# Altium schematic symbol library Symbols.SchLib: 143 symbols (part 5 of 5)
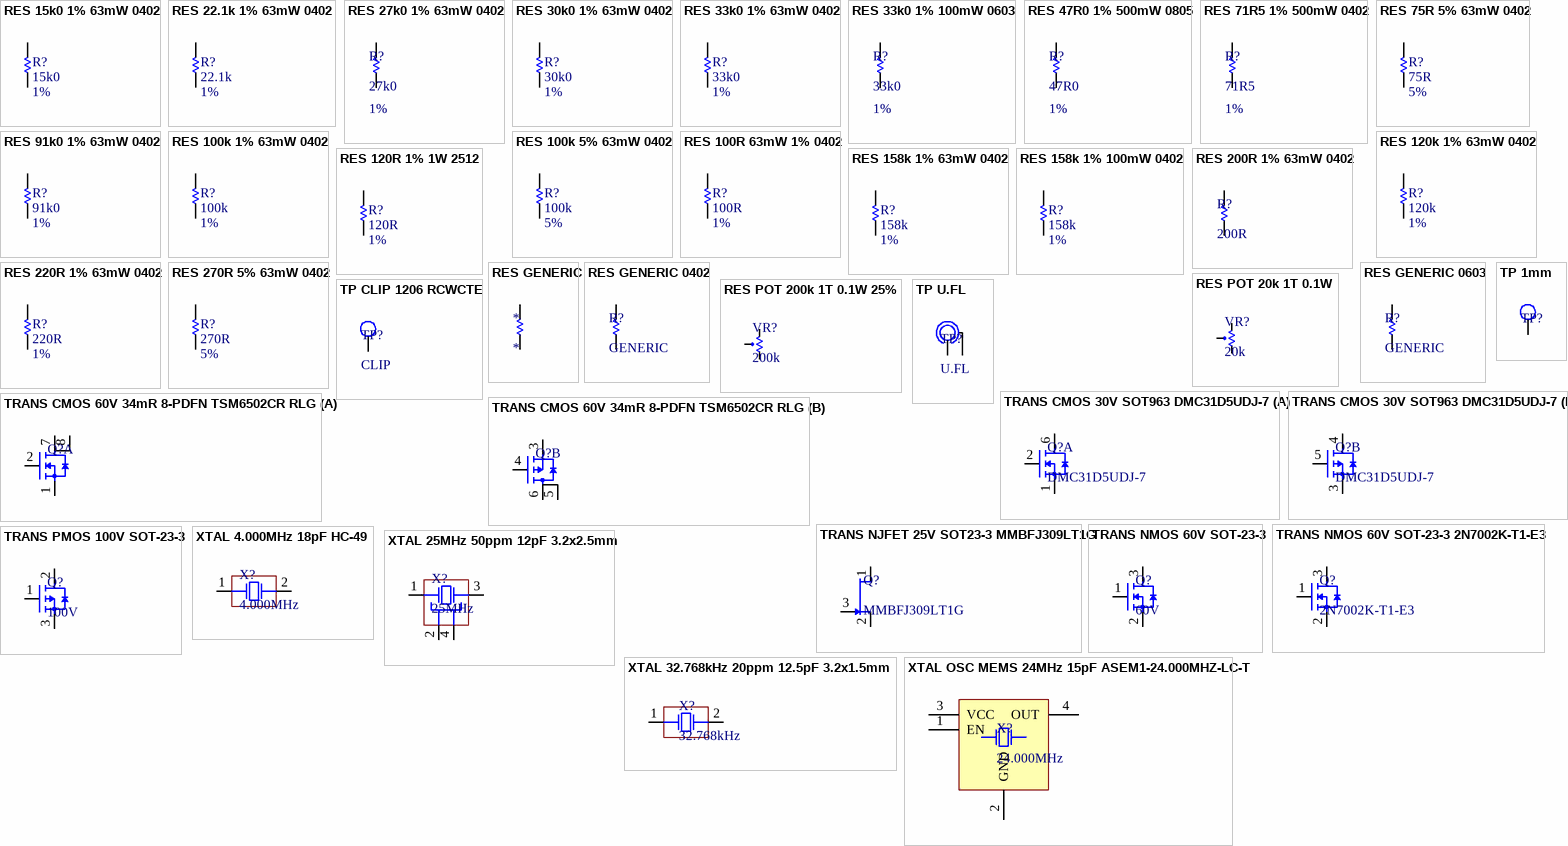
[diagram p7: symbols RES 15k0 1% 63mW 0402 to XTAL OSC MEMS 24MHz 15pF ASEM1-24.000MHZ-LC-T]

## RES POT 20k 1T 0.1W
designator VR?, comment 20k
Res Trimmer 20K Ohm 25% 1/10W 1(Elec)/1(Mech)Turn (3 X 3.8mm) Foot Print SMD Embossed T/R; Manufacturer: Bourns; Manufacturer Part Number: TC33X-2-203E; Resistance: 20kR; Power Rating: 100mW; Number of Turns: 1; Temperature Coefficient: 250ppm/°C; Supplier 1: Digi-Key; RoHS: Yes; Category: Variable Resistors and Potentiometers; Stock 1: 95244; Pricing 1: 1=0.26000, 10=0.25200, 25=0.22760, 50=0.21700, 100=0.21000, 250=0.19600, 500=0.17850, 1000=0.16100 (USD); Mount: Surface Mount; Min Operating Temperature: -40°C; Max Operating Temperature: 100°C; Tolerance: 25%; Packaging: Tape and Reel; Package Quantity: 2500; Resistor Type: Cermet; Termination: Foot Print; Max Power Dissipation: 100mW; Series: TC33; Resistance Tolerance: 25%; Length: 3mm; Width: 0.118inch; Height: 0.047inch; Depth: 3.8mm; Radiation Hardening: No; REACH SVHC: No SVHC; Military Standard: Not; RoHS Compliant: Yes; ComponentLink1URL: https://datasheet.ciiva.com/22671/1537288-22671216.pdf?src-supplier=Element14; ComponentLink1Description: https://datasheet.ciiva.com/22671/1537288-22671216.pdf?src-supplier=Element14; ComponentLink2URL: https://datasheet.ciiva.com/11833/0900766b802749b3-11833400.pdf?src-supplier=RSComponents; ComponentLink2Description: https://datasheet.ciiva.com/11833/0900766b802749b3-11833400.pdf?src-supplier=RSComponents; ComponentLink3URL: https://datasheet.ciiva.com/6227/tc33-6227117.pdf?src-supplier=Digi-Key; ComponentLink3Description: https://datasheet.ciiva.com/6227/tc33-6227117.pdf?src-supplier=Digi-Key; ComponentLink4URL: https://datasheet.ciiva.com/6227/tc33-6227118.pdf?src-supplier=Digi-Key; ComponentLink4Description: https://datasheet.ciiva.com/6227/tc33-6227118.pdf?src-supplier=Digi-Key; ComponentLink5URL: https://datasheet.ciiva.com/6227/tc33-6227119.pdf?src-supplier=Digi-Key; ComponentLink5Description: https://datasheet.ciiva.com/6227/tc33-6227119.pdf?src-supplier=Digi-Key; ComponentLink6URL: https://datasheet.ciiva.com/30078/tc33-30078556.pdf?src-supplier=Onlinecomponents.com; ComponentLink6Description: https://datasheet.ciiva.com/30078/tc33-30078556.pdf?src-supplier=Onlinecomponents.com; ComponentLink7URL: https://datasheet.ciiva.com/15156/getdatasheetpartid-128027-15156621.pdf?src-supplier=Verical; ComponentLink7Description: https://datasheet.ciiva.com/15156/getdatasheetpartid-128027-15156621.pdf?src-supplier=Verical; ComponentLink8URL: https://datasheet.ciiva.com/7953/1818686-7953350.pdf?src-supplier=Element14; ComponentLink8Description: https://datasheet.ciiva.com/7953/1818686-7953350.pdf?src-supplier=Element14; ComponentLink9URL: https://datasheet.ciiva.com/22718/1520225-22718588.pdf?src-supplier=Element14; ComponentLink9Description: https://datasheet.ciiva.com/22718/1520225-22718588.pdf?src-supplier=Element14; Supplier Part Number 1: TC33X-2-203ECT-ND
footprint RV TC33X-2
pins: 1, 2, 3

## RES POT 200k 1T 0.1W 25%
designator VR?, comment 200k
Res Trimmer 200K Ohm 25% 1/10W 1(Elec)/1(Mech)Turn (3 X 3.8mm) Foot Print SMD Embossed T/R; Manufacturer: Bourns; Manufacturer Part Number: TC33X-2-204E; Resistance: 200kR; Power Rating: 100mW; Temperature Coefficient: 250ppm/°C; Supplier 1: Digi-Key; RoHS: Yes; Category: Variable Resistors and Potentiometers; Stock 1: 4250; Pricing 1: 1=0.26000, 10=0.25500, 25=0.22960, 50=0.21920, 100=0.21210, 250=0.19796, 500=0.18028, 1000=0.16261 (USD); Mount: Surface Mount; Min Operating Temperature: -40°C; Max Operating Temperature: 120°C; Package Quantity: 1; Tolerance: 25%; Packaging: Tape and Reel; Resistor Type: Cermet,Carbon; Termination: SMD/SMT; Max Power Dissipation: 100mW; Series: Trimpot® TC33 - Open Frame; Length: 0.15inch; Width: 0.118inch; Height: 0.047inch; Radiation Hardening: No; RoHS Compliant: Yes; ComponentLink1URL: https://datasheet.ciiva.com/8700/tc33-8700183.pdf?src-supplier=Avnet; ComponentLink1Description: https://datasheet.ciiva.com/8700/tc33-8700183.pdf?src-supplier=Avnet; ComponentLink2URL: https://datasheet.ciiva.com/6227/tc33-6227132.pdf?src-supplier=Digi-Key; ComponentLink2Description: https://datasheet.ciiva.com/6227/tc33-6227132.pdf?src-supplier=Digi-Key; Supplier Part Number 1: TC33X-2-204ECT-ND
footprint RV TC33X-2
pins: 1, 2, 3

## TP 1mm
designator TP?, comment 1mm  (value not drawn)  (no BOM)
SMT testpoint
footprint TESTPOINT_SMT (testpoint smt)
pins: 1

## TP CLIP 1206 RCWCTE
designator TP?, comment CLIP
Current Sense Resistors - SMD CHIP CHECKER HT=2.0 1206; Manufacturer: KOA Speer; Manufacturer Part Number: RCWCTE; Resistance: 0R; Current Rating: 2A; Supplier 1: Digi-Key; RoHS: Yes; Category: Chip SMD Resistors; Stock 1: 282207; Pricing 1: 1=0.16000, 10=0.13700, 25=0.12120, 50=0.11320, 100=0.10500, 250=0.09292, 500=0.08888, 1000=0.07272 (USD); Mount: Surface Mount; Case/Package: 1206; Case Code (Imperial): 1206; Case Code (Metric): 3216; Min Operating Temperature: -55°C; Max Operating Temperature: 125°C; Packaging: Tape and Reel; Termination: SMD/SMT; Series: RC; Length: 3.2mm; Width: 1.6mm; Height: 2mm; Depth: 1.6mm; Military Standard: Not; RoHS Compliant: Yes; ComponentLink1URL: https://datasheet.ciiva.com/34302/1876186-34302940.pdf?src-supplier=Jameco; ComponentLink1Description: https://datasheet.ciiva.com/34302/1876186-34302940.pdf?src-supplier=Jameco; ComponentLink2URL: https://datasheet.ciiva.com/5556/rc-5556236.pdf?src-supplier=Mouser; ComponentLink2Description: https://datasheet.ciiva.com/5556/rc-5556236.pdf?src-supplier=Mouser; ComponentLink3URL: https://datasheet.ciiva.com/26821/getdatasheetpartid-110197-26821157.pdf?src-supplier=Verical; ComponentLink3Description: https://datasheet.ciiva.com/26821/getdatasheetpartid-110197-26821157.pdf?src-supplier=Verical; Supplier Part Number 1: 2019-RCWCTECT-ND
footprint TESTPOINT_CLIP_1206
pins: 1

## TP U.FL
designator TP?, comment U.FL
CONN U.FL RCPT STR 50 OHM SMD; Manufacturer: Hirose; Manufacturer Part Number: U.FL-R-SMT-1(80); Body Material: Bronze; Body Plating: Silver; Center Contact Plating: Gold; Dielectric Material: Polymer; Connector Type: Receptacle,Male Pin; Impedance: 50R; Max Frequency: 6GHz; Number of Ports: 1; Mating Cycles: 30; Supplier 1: Future Electronics; RoHS: Yes; Category: RF / Coaxial Connectors; Stock 1: 40000; Pricing 1: 10000=0.81500, 20000=0.80000, 30000=0.78500 (USD); Mount: Surface Mount; Case/Package: SMD/SMT; Contact Material: Brass; Housing Color: Beige; Min Operating Temperature: -40°C; Max Operating Temperature: 90°C; Package Quantity: 10000; Packaging: Tape and Reel; Fastening Type: SNAP-ON; Series: U.FL; Termination: Solder; Lead Free: Lead Free; RoHS Compliant: Yes; ComponentLink1URL: http://www.mouser.com/ds/2/185/U.FL_catalog-939761.pdf?src-supplier=Mouser; ComponentLink1Description: http://www.mouser.com/ds/2/185/U.FL_catalog-939761.pdf?src-supplier=Mouser; ComponentLink2URL: https://www.hirose.com/product/en/download_file/key_name/U.FL-R-SMT-1%2880%29/category/Specification%20Sheet/doc_file_id/37638/?file_category_id=9&item_id=03310472280&is_series=&src-supplier=Digi-Key; ComponentLink2Description: https://www.hirose.com/product/en/download_file/key_name/U.FL-R-SMT-1%2880%29/category/Specification%20Sheet/doc_file_id/37638/?file_category_id=9&item_id=03310472280&is_series=&src-supplier=Digi-Key
footprint U.FL (SOT23, 6-Leads, Body 2.90x2.80mm, Pitch 0.95mm, IPC Low Density)
pins: 0, 1

## TRANS CMOS 30V SOT963 DMC31D5UDJ-7
designator Q?, comment DMC31D5UDJ-7
Complementary Pair Enhancement Mode Mosfet, N+p, 30V Vds, 12±V Vgs; Manufacturer: Diodes; Continuous Drain Current (ID): 200mA; Rds On Max: 1.5R; Input Capacitance: 22.6pF; Max Power Dissipation: 350mW; Number of Channels: 2; Drain to Source Resistance: 5.1R; Fall Time: 8.7ns; Rise Time: 5.2ns; Turn-Off Delay Time: 18.8ns; Turn-On Delay Time: 3.5ns; FET Type: N and P-Channel; Capacitance: 2.22E-11F; Supplier 1: Digi-Key; Manufacturer Part Number: DMC31D5UDJ-7; RoHS: Yes; Category: MOSFETs; Stock 1: 103163; Pricing 1: 1=0.46000, 10=0.39000, 100=0.29110, 500=0.22868, 1000=0.17672, 2000=0.16112, 5000=0.15073 (USD); Mount: Surface Mount; Case/Package: SOT-963; Min Operating Temperature: -55°C; Max Operating Temperature: 150°C; Packaging: Tape and Reel; Drain to Source Voltage (Vdss): 30V; Gate to Source Voltage (Vgs): 12V; Package Quantity: 10000; RoHS Compliant: Yes; ComponentLink1URL: http://www.mouser.com/ds/2/115/DMC31D5UDJ-355884.pdf?src-supplier=Mouser; ComponentLink1Description: http://www.mouser.com/ds/2/115/DMC31D5UDJ-355884.pdf?src-supplier=Mouser; Supplier Part Number 1: DMC31D5UDJ-7DICT-ND
footprint SOT963 6pin 1x1mm DIODES (SOTFL, 6-Leads, Body 1.00x1.00mm, Pitch 0.35mm, IPC Medium Density)
part A pins: 1 S, 2 G, 6 D
part B pins: 3 S, 4 S, 5 G

## TRANS CMOS 60V 34mR 8-PDFN TSM6502CR RLG
designator Q?, comment TSM6502CR RLG  (value not drawn)
-60V, -18A, Complementary P-Channel Power MOSFET; 60V, 24A, Complementary N-Channel Power MOSFET; Manufacturer: Taiwan Semiconductor; FET Type: N and P-Channel; Continuous Drain Current (ID): 18A; Rds On Max: 34mR; Input Capacitance: 1.159nF; Max Power Dissipation: 40W; Supplier 1: Digi-Key; Manufacturer Part Number: TSM6502CR RLG; RoHS: Yes; Stock 1: 4997; Pricing 1: 1=2.48000, 10=2.23200, 100=1.79380, 500=1.47378, 1000=1.22113 (USD); Mount: Surface Mount; Number of Pins: 8; Min Operating Temperature: -55°C; Max Operating Temperature: 150°C; Packaging: Cut Tape; Drain to Source Voltage (Vdss): 60V; ComponentLink1URL: http://www.taiwansemi.com/products/datasheet/TSM6502CR_A1701.pdf?src-supplier=Digi-Key; ComponentLink1Description: http://www.taiwansemi.com/products/datasheet/TSM6502CR_A1701.pdf?src-supplier=Digi-Key; Supplier Part Number 1: TSM6502CRRLGCT-ND
footprint PDFN-8 DUAL 5x6mm (SON, 8-Leads, Body 5.75x4.90mm, Pitch 1.27mm, IPC Medium Density)
part A pins: 1 S, 2 G, 7 D, 8 D
part B pins: 3 S, 4 G, 5 S, 6 S

## TRANS NJFET 25V SOT23-3 MMBFJ309LT1G
designator Q?, comment MMBFJ309LT1G
Transistor; JFET - VHF/UHF Amplifier; 25 VDC; 10 mADC; SOT-23 (TO-236); Pb-Free; Manufacturer 1: ON Semiconductor; Category 1: JFETs; Voltage Rating: 25V; Power Dissipation: 225mW; Input Capacitance: 5pF; Voltage Rating (DC): -25V; Continuous Drain Current (ID): 10mA; Polarity: N-CHANNEL; Polarization: N; Supplier 1: Future Electronics; Supplier Part Number 1: 4084901; Manufacturer Part Number 1: MMBFJ309LT1G; RoHS 1: Yes; Description 1: Transistor; JFET - VHF/UHF Amplifier; 25 VDC; 10 mADC; SOT-23 (TO-236); Pb-Free; Stock 1: 12000; Pricing 1: 3000=0.0952, 9000=0.0915, 12000=0.0905, 30000=0.0876, 45000=0.0847 (USD); Case/Package: SOT-23-3; Pins: 3; Weight: 0.050717oz; Min Operating Temperature: -55°C; Max Operating Temperature: 150°C; Packaging: Tape and Reel; Gate to Source Voltage (Vgs): 25V; Series: -; Package Quantity: 3000; Drain to Source Voltage (Vdss): 25V; Breakdown Voltage: -25V; Length: 0.119inch; Width: 0.055inch; Height: 0.04inch; Radiation Hardening: No; Lead Free: Lead Free; RoHS Compliant: Yes; Reach SVHC Compliant: No; Halogen Free: Halogen Free; ComponentLink1URL: https://datasheet.ciiva.com/1187/mmbfj309lt1-d-1187696.pdf?src-supplier=Element14; ComponentLink1Description: https://datasheet.ciiva.com/1187/mmbfj309lt1-d-1187696.pdf?src-supplier=Element14; ComponentLink2URL: https://datasheet.ciiva.com/6362/mmbfj309lt1-d-6362849.pdf?src-supplier=Digi-Key; ComponentLink2Description: https://datasheet.ciiva.com/6362/mmbfj309lt1-d-6362849.pdf?src-supplier=Digi-Key; ComponentLink3URL: https://datasheet.ciiva.com/30480/0900766b811a6593-30480155.pdf?src-supplier=Rs; ComponentLink3Description: https://datasheet.ciiva.com/30480/0900766b811a6593-30480155.pdf?src-supplier=Rs; ComponentLink4URL: https://datasheet.ciiva.com/8084/mmbfj309lt1-d-8084199.pdf?src-supplier=Avnet; ComponentLink4Description: https://datasheet.ciiva.com/8084/mmbfj309lt1-d-8084199.pdf?src-supplier=Avnet; ComponentLink5URL: https://datasheet.ciiva.com/16376/mmbfj309lt1-d-16376405.pdf?src-supplier=Future+Electronics; ComponentLink5Description: https://datasheet.ciiva.com/16376/mmbfj309lt1-d-16376405.pdf?src-supplier=Future+Electronics; ComponentLink6URL: https://datasheet.ciiva.com/6362/mmbfj309lt1-d-6362854.pdf?src-supplier=Digi-Key; ComponentLink6Description: https://datasheet.ciiva.com/6362/mmbfj309lt1-d-6362854.pdf?src-supplier=Digi-Key; ComponentLink7URL: https://datasheet.ciiva.com/1187/mmbfj309lt1-d-1187695.pdf?src-supplier=Element14; ComponentLink7Description: https://datasheet.ciiva.com/1187/mmbfj309lt1-d-1187695.pdf?src-supplier=Element14
footprint SOT 23-3
pins: 1 D, 2 S, 3 G

## TRANS NMOS 60V SOT-23-3
designator Q?, comment 60V
N-Channel 60 V 0.2 W Surface Mount 2.5 V Drive Silicon Power Mosfet - SOT-23; Manufacturer: Rohm; Manufacturer Part Number: RK7002BMT116; Rds On Max: 2.4R; Input Capacitance: 15pF; Continuous Drain Current (ID): 250mA; Max Power Dissipation: 200mW; Number of Channels: 1; Drain to Source Resistance: 1.7R; Gate to Source Voltage (Vgs): 20V; Fall Time: 28ns; Rise Time: 5ns; Turn-Off Delay Time: 18ns; Turn-On Delay Time: 3.5ns; FET Type: 1 N-Channel; Supplier 1: Digi-Key; RoHS: Yes; Category: MOSFETs; Stock 1: 68809; Pricing 1: 1=0.16000, 10=0.14900, 100=0.08100, 500=0.04986, 1000=0.03399 (USD); Mount: Surface Mount; Case/Package: TO-236-3; Max Operating Temperature: 150°C; Package Quantity: 3000; Packaging: Tape and Reel; Drain to Source Voltage (Vdss): 60V; Drain to Source Breakdown Voltage: 60V; Lead Free: Lead Free; RoHS Compliant: Yes; ComponentLink1URL: http://www.farnell.com/datasheets/2197948.pdf?src-supplier=Farnell; ComponentLink1Description: http://www.farnell.com/datasheets/2197948.pdf?src-supplier=Farnell; ComponentLink2URL: http://www.mouser.com/ds/2/348/rk7002bmt116-e-1018209.pdf?src-supplier=Mouser; ComponentLink2Description: http://www.mouser.com/ds/2/348/rk7002bmt116-e-1018209.pdf?src-supplier=Mouser; ComponentLink3URL: http://rohmfs.rohm.com/en/techdata_basic/transistor/taping/SST3_T116_taping.pdf?src-supplier=Digi-Key; ComponentLink3Description: http://rohmfs.rohm.com/en/techdata_basic/transistor/taping/SST3_T116_taping.pdf?src-supplier=Digi-Key; ComponentLink4URL: http://rohmfs.rohm.com/en/products/databook/datasheet/discrete/transistor/mosfet/rk7002bm.pdf?src-supplier=Avnet; ComponentLink4Description: http://rohmfs.rohm.com/en/products/databook/datasheet/discrete/transistor/mosfet/rk7002bm.pdf?src-supplier=Avnet; ComponentLink5URL: http://www.farnell.com/datasheets/2197948.pdf?src-supplier=Newark; ComponentLink5Description: http://www.farnell.com/datasheets/2197948.pdf?src-supplier=Newark; ComponentLink6URL: http://www.farnell.com/datasheets/2197948.pdf?src-supplier=Element14; ComponentLink6Description: http://www.farnell.com/datasheets/2197948.pdf?src-supplier=Element14; Supplier Part Number 1: RK7002BMT116CT-ND
footprint SOT 23-3
pins: 1 G, 2 S, 3 D

## TRANS NMOS 60V SOT-23-3 2N7002K-T1-E3
designator Q?, comment 2N7002K-T1-E3
Trans MOSFET N-CH 60V 0.3A 3-Pin SOT-23 T/R - Tape and Reel (Alt: 2N7002K-T1-E3); Manufacturer: Vishay Siliconix; Nominal Vgs: 2V; Rds On Max: 2R; Input Capacitance: 30pF; Number of Elements: 1; Max Power Dissipation: 200mW; Continuous Drain Current (ID): 300mA; Drain to Source Breakdown Voltage: 70V; Drain to Source Resistance: 7.5R; Gate to Source Voltage (Vgs): 20V; Turn-Off Delay Time: 35ns; Power Dissipation: 350mW; Turn-On Delay Time: 25ns; Element Configuration: Single; Polarity: N-CHANNEL; Polarization: N; Supplier 1: Newark; Manufacturer Part Number: 2N7002K-T1-E3; RoHS: Yes; Category: MOSFETs; Stock 1: 29333; Pricing 1: 1=0.38000, 25=0.31000, 50=0.26100, 100=0.21200, 250=0.18600, 500=0.15900 (USD); Mount: Surface Mount; Case/Package: SOT-23-3; Number of Pins: 3; Weight: 0.050717oz; Min Operating Temperature: -55°C; Max Operating Temperature: 150°C; Packaging: Tape and Reel; Package Quantity: 1; Drain to Source Voltage (Vdss): 60V; Threshold Voltage: 2V; Number of Channels: 1; On-State Resistance: 2R; Series: TrenchFET®; Drain-source On Resistance-Max: 2R; Length: 3.04mm; Width: 1.4mm; Height: 1.02mm; Radiation Hardening: No; Lead Free: Lead Free; RoHS Compliant: Yes; ComponentLink1URL: https://datasheet.ciiva.com/15137/getdatasheetpartid-75158-15137377.pdf?src-supplier=Verical; ComponentLink1Description: https://datasheet.ciiva.com/15137/getdatasheetpartid-75158-15137377.pdf?src-supplier=Verical; ComponentLink2URL: https://datasheet.ciiva.com/1254/70226-1254497.pdf?src-supplier=Newark; ComponentLink2Description: https://datasheet.ciiva.com/1254/70226-1254497.pdf?src-supplier=Newark; ComponentLink3URL: https://datasheet.ciiva.com/4440/70226-240087-4440695.pdf?src-supplier=Mouser; ComponentLink3Description: https://datasheet.ciiva.com/4440/70226-240087-4440695.pdf?src-supplier=Mouser; ComponentLink4URL: https://datasheet.ciiva.com/8084/2n7002k-8084215.pdf?src-supplier=Avnet; ComponentLink4Description: https://datasheet.ciiva.com/8084/2n7002k-8084215.pdf?src-supplier=Avnet; ComponentLink5URL: https://datasheet.ciiva.com/6367/2n7002k-6367013.pdf?src-supplier=Digi-Key; ComponentLink5Description: https://datasheet.ciiva.com/6367/2n7002k-6367013.pdf?src-supplier=Digi-Key; ComponentLink6URL: https://datasheet.ciiva.com/6367/2n7002k-6367016.pdf?src-supplier=Digi-Key; ComponentLink6Description: https://datasheet.ciiva.com/6367/2n7002k-6367016.pdf?src-supplier=Digi-Key; ComponentLink7URL: https://datasheet.ciiva.com/16376/2n7002k-16376713.pdf?src-supplier=Future+Electronics; ComponentLink7Description: https://datasheet.ciiva.com/16376/2n7002k-16376713.pdf?src-supplier=Future+Electronics; ComponentLink8URL: https://datasheet.ciiva.com/7788/2n7002k-7788909.pdf?src-supplier=Element14; ComponentLink8Description: https://datasheet.ciiva.com/7788/2n7002k-7788909.pdf?src-supplier=Element14; ComponentLink9URL: https://datasheet.ciiva.com/22749/1911668-22749621.pdf?src-supplier=Element14; ComponentLink9Description: https://datasheet.ciiva.com/22749/1911668-22749621.pdf?src-supplier=Element14; Supplier Part Number 1: 06J8894
footprint SOT 23-3
simulation model 2N7002K (Model Description)
pins: 1 G, 2 S, 3 D

## TRANS PMOS 100V SOT-23-3
designator Q?, comment 100V
DMP10H4D2S Series 100V 270 mA P-Channel Enhancement Mode Mosfet - SOT-23-3; Manufacturer: Diodes; Manufacturer Part Number: DMP10H4D2S-7; Continuous Drain Current (ID): 270mA; Rds On Max: 4.2R; Input Capacitance: 87pF; Max Power Dissipation: 380mW; Supplier 1: Digi-Key; RoHS: Yes; Category: MOSFETs; Stock 1: 1201; Pricing 1: 1=0.44000, 10=0.33100, 100=0.20650, 500=0.14128, 1000=0.10868 (USD); Mount: Surface Mount; Case/Package: TO-236-3; Min Operating Temperature: -55°C; Max Operating Temperature: 150°C; Packaging: Tape and Reel; Drain to Source Voltage (Vdss): 100V; ComponentLink1URL: http://www.farnell.com/datasheets/2814419.pdf?src-supplier=Farnell; ComponentLink1Description: http://www.farnell.com/datasheets/2814419.pdf?src-supplier=Farnell; ComponentLink2URL: http://www.mouser.com/ds/2/115/DMP10H4D2S-773915.pdf?src-supplier=Mouser; ComponentLink2Description: http://www.mouser.com/ds/2/115/DMP10H4D2S-773915.pdf?src-supplier=Mouser; ComponentLink3URL: https://www.diodes.com/assets/Datasheets/DMP10H4D2S.pdf?src-supplier=Digi-Key; ComponentLink3Description: https://www.diodes.com/assets/Datasheets/DMP10H4D2S.pdf?src-supplier=Digi-Key; ComponentLink4URL: http://www.farnell.com/datasheets/2814419.pdf?src-supplier=Element14; ComponentLink4Description: http://www.farnell.com/datasheets/2814419.pdf?src-supplier=Element14; ComponentLink5URL: http://www.farnell.com/datasheets/2814419.pdf?src-supplier=Newark; ComponentLink5Description: http://www.farnell.com/datasheets/2814419.pdf?src-supplier=Newark; Supplier Part Number 1: DMP10H4D2S-7DICT-ND
footprint SOT 23-3 (Footprint not found)
pins: 1 G, 2 S, 3 S

## XTAL 4.000MHz 18pF HC-49
designator X?, comment 4.000MHz
Crystal 4MHz ±30ppm (Tol) ±50ppm (Stability) 18pF FUND 180Ohm 2-Pin HC-49/US SMD T/R; Manufacturer: Abracon; Manufacturer Part Number: ABLS-4.000MHZ-B4-T; ESR (Equivalent Series Resistance): 180R; Supplier 1: Digi-Key; RoHS: Yes; Category: Crystals; Stock 1: 302; Pricing 1: 1=0.32000, 10=0.26400, 50=0.23760, 100=0.21120, 500=0.20064 (USD); Mount: Surface Mount; Case/Package: SMD/SMT; Min Operating Temperature: -20°C; Max Operating Temperature: 70°C; Package Quantity: 1000; Frequency: 4MHz; Frequency Tolerance: 30ppm; Load Capacitance: 18pF; Packaging: Tape and Reel; Tolerance: 30ppm; Frequency Stability: 50ppm; Termination: SMD/SMT; Series: ABLS; Series Resistance: 180R; Operating Frequency: 4 MHz; Length: 11.4mm; Width: 0.185inch; Height: 0.165inch; Depth: 4.7mm; Radiation Hardening: No; REACH SVHC: Yes; Lead Free: Lead Free; ComponentLink1URL: https://datasheet.ciiva.com/15116/getdatasheetpartid-723826-15116860.pdf?src-supplier=Verical; ComponentLink1Description: https://datasheet.ciiva.com/15116/getdatasheetpartid-723826-15116860.pdf?src-supplier=Verical; ComponentLink2URL: https://datasheet.ciiva.com/860/abls-860304.pdf?src-supplier=Digi-Key; ComponentLink2Description: https://datasheet.ciiva.com/860/abls-860304.pdf?src-supplier=Digi-Key; ComponentLink3URL: https://datasheet.ciiva.com/860/abls-860305.pdf?src-supplier=Digi-Key; ComponentLink3Description: https://datasheet.ciiva.com/860/abls-860305.pdf?src-supplier=Digi-Key; ComponentLink4URL: https://datasheet.ciiva.com/860/abls-860306.pdf?src-supplier=Digi-Key; ComponentLink4Description: https://datasheet.ciiva.com/860/abls-860306.pdf?src-supplier=Digi-Key; ComponentLink5URL: https://datasheet.ciiva.com/3175/abls-3175417.pdf?src-supplier=Avnet; ComponentLink5Description: https://datasheet.ciiva.com/3175/abls-3175417.pdf?src-supplier=Avnet; Supplier Part Number 1: 535-10202-1-ND
footprint XTAL 2pin
pins: 1, 2

## XTAL 25MHz 50ppm 12pF 3.2x2.5mm
designator X?, comment 25MHz
Crystal 25MHz ±50ppm (Tol) ±30ppm (Stability) 12pF FUND 50Ohm 4-Pin CSMD T/R; Manufacturer: Epson; Manufacturer Part Number: FA-23825.0000MB-W0; ESR (Equivalent Series Resistance): 50R; Drive Level: 200uW; Supplier 1: Mouser; RoHS: Yes; Category: Crystals; Mount: Surface Mount; Case/Package: SMD/SMT; Weight: 0.000564oz; Min Operating Temperature: -20°C; Max Operating Temperature: 70°C; Frequency: 25MHz; Tolerance: 50ppm; Load Capacitance: 12pF; Packaging: Tape and Reel; Package Quantity: 1000; Termination: SMD/SMT; Frequency Stability: 30ppm; Frequency Tolerance: 50ppm; Series: FA-238; Length: 0.126inch; Width: 0.098inch; Height: 0.028inch; RoHS Compliant: Yes; ComponentLink1URL: https://datasheet.ciiva.com/4948/1729491-472357-4948905.pdf?src-supplier=Mouser; ComponentLink1Description: https://datasheet.ciiva.com/4948/1729491-472357-4948905.pdf?src-supplier=Mouser; Supplier Part Number 1: 732-FA238-25B-W0
footprint XTAL FA-238V 3.2x2.5mm
pins: 1, 2, 3, 4

## XTAL 32.768kHz 20ppm 12.5pF 3.2x1.5mm
designator X?, comment 32.768kHz
Crystal 0.032768MHz ±20ppm (Tol) 12.5pF Flexural 70000Ohm 2-Pin Ultra Mini-CSMD T/R; Manufacturer: ECS International; Manufacturer Part Number: ECS-.327-12.5-34B-TR; ESR (Equivalent Series Resistance): 70kR; Supplier 1: Digi-Key; RoHS: Yes; Category: Crystals; Stock 1: 74617; Pricing 1: 1=0.80000, 10=0.70800, 50=0.66220, 100=0.58520, 500=0.55440, 1000=0.46200 (USD); Mount: Surface Mount; Case/Package: SMD/SMT; Number of Pins: 2; Min Operating Temperature: -40°C; Max Operating Temperature: 85°C; Frequency: 32.768kHz; Packaging: Tape and Reel; Package Quantity: 3000; Load Capacitance: 12.5pF; Termination: SMD/SMT; Frequency Tolerance: 20ppm; Series: ECX-31B; Length: 0.126inch; Width: 0.059inch; Height: 0.035inch; RoHS Compliant: Yes; ComponentLink1URL: http://www.mouser.com/ds/2/122/ecx-31b-1108368.pdf?src-supplier=Mouser; ComponentLink1Description: http://www.mouser.com/ds/2/122/ecx-31b-1108368.pdf?src-supplier=Mouser; ComponentLink2URL: http://www.ecsxtal.com/store/pdf/partnumber4.pdf?src-supplier=Digi-Key; ComponentLink2Description: http://www.ecsxtal.com/store/pdf/partnumber4.pdf?src-supplier=Digi-Key; ComponentLink3URL: http://www.ecsxtal.com/store/pdf/ecx-31b.pdf?src-supplier=Digi-Key; ComponentLink3Description: http://www.ecsxtal.com/store/pdf/ecx-31b.pdf?src-supplier=Digi-Key; Supplier Part Number 1: XC1617CT-ND
footprint XTAL 3.2x1.5mm
pins: 1, 2

## XTAL OSC MEMS 24MHz 15pF ASEM1-24.000MHZ-LC-T
designator X?, comment 24.000MHz
Oscillator MEMS 24MHz ±50ppm (Stability) 15pF LVCMOS 55% 3.3V Automotive 4-Pin QFN SMD T/R; Manufacturer: Abracon; Manufacturer Part Number: ASEM1-24.000MHZ-LC-T; Max Supply Current: 10mA; Supplier 1: Newark; RoHS: Yes; Category: Oscillators; Stock 1: 386; Pricing 1: 1=2.01000, 10=1.92000, 25=1.90000, 50=1.87000, 100=1.61000 (USD); Mount: Surface Mount; Case/Package: SMD/SMT; Number of Pins: 4; Min Operating Temperature: -40°C; Max Operating Temperature: 85°C; Frequency: 24MHz; Packaging: Tape and Reel; Load Capacitance: 15pF; Frequency Stability: 50ppm; Series: Pure Silicon™ ASEM; Package Quantity: 1000; Operating Supply Voltage: 3.3V; Termination: SMD/SMT; Operating Frequency: 24 MHz; Length: 0.126inch; Width: 0.098inch; Height: 0.035inch; Radiation Hardening: No; Lead Free: Lead Free; ComponentLink1URL: https://datasheet.ciiva.com/868/asem-868994.pdf?src-supplier=Digi-Key; ComponentLink1Description: https://datasheet.ciiva.com/868/asem-868994.pdf?src-supplier=Digi-Key; ComponentLink2URL: https://datasheet.ciiva.com/868/asem-868995.pdf?src-supplier=Digi-Key; ComponentLink2Description: https://datasheet.ciiva.com/868/asem-868995.pdf?src-supplier=Digi-Key; ComponentLink3URL: https://datasheet.ciiva.com/868/asem-868996.pdf?src-supplier=Digi-Key; ComponentLink3Description: https://datasheet.ciiva.com/868/asem-868996.pdf?src-supplier=Digi-Key; ComponentLink4URL: https://datasheet.ciiva.com/9312/asem-9312779.pdf?src-supplier=Avnet; ComponentLink4Description: https://datasheet.ciiva.com/9312/asem-9312779.pdf?src-supplier=Avnet; ComponentLink5URL: https://datasheet.ciiva.com/25665/asem-25665591.pdf?src-supplier=Future+Electronics; ComponentLink5Description: https://datasheet.ciiva.com/25665/asem-25665591.pdf?src-supplier=Future+Electronics; Supplier Part Number 1: 89AH0830
footprint XTAL FA-238V 3.2x2.5mm
pins: 1 EN, 2 GND, 3 VCC, 4 OUT